# EAGLE library part CON_2X5M_M20_TOP (library OTHERTEST)
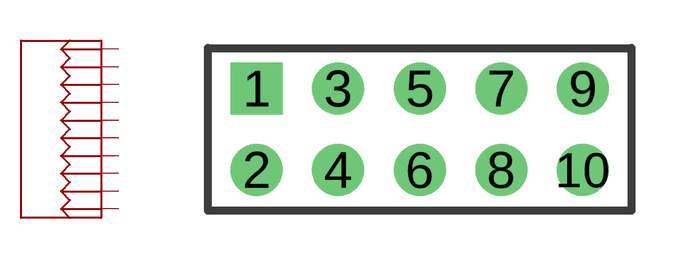
[diagram p2: symbol with the pads of HDRF-2x5T/2.54x2.54/13x5; footprint HDRF-2x5T/2.54x2.54/13x5]

Designator prefix J

## CON_2X5M_M20_TOP  [HDRF-2x5T/2.54x2.54/13x5]
1  1  nc
2  2  nc
3  3  nc
4  4  nc
5  5  nc
6  6  nc
7  7  nc
8  8  nc
9  9  nc
10  10  nc

## Footprint HDRF-2x5T/2.54x2.54/13x5 (pad centres in mm)
drill 1.02 pad 1.62 square: 1 -5.08,1.27
drill 1.02 pad 1.62: 2 -5.08,-1.27; 3 -2.54,1.27; 4 -2.54,-1.27; 5 0,1.27; 6 0,-1.27; 7 2.54,1.27; 8 2.54,-1.27; 9 5.08,1.27; 10 5.08,-1.27